# EAGLE library part 2524-5002UB (library 3M_By_element14_Batch_1)
WIRE-BOARD CONN, HEADER, 24POS
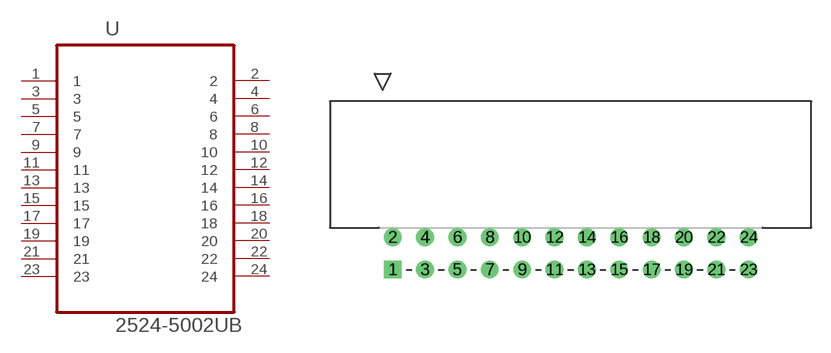
[diagram p23: symbol with the pads of 3M_2524-5002UB; footprint 3M_2524-5002UB]

Designator prefix U

## 2524-5002UB (MPN: 2524-5002UB; OC_FARNELL: 1941010; OC_NEWARK: 93F3744; PACKAGE: WIRE-BOARD CONN, HEADER, 24POS; SUPPLIER: 3M)  [3M_2524-5002UB]
1  1  pas
2  2  pas
3  3  pas
4  4  pas
5  5  pas
6  6  pas
7  7  pas
8  8  pas
9  9  pas
10  10  pas
11  11  pas
12  12  pas
13  13  pas
14  14  pas
15  15  pas
16  16  pas
17  17  pas
18  18  pas
19  19  pas
20  20  pas
21  21  pas
22  22  pas
23  23  pas
24  24  pas

## Footprint 3M_2524-5002UB (pad centres in mm)
drill 0.889 square: 1 0,-1.956
drill 0.889: 2 0,0.584; 3 2.54,-1.956; 4 2.54,0.584; 5 5.08,-1.956; 6 5.08,0.584; 7 7.62,-1.956; 8 7.62,0.584; 9 10.16,-1.956; 10 10.16,0.584; 11 12.7,-1.956; 12 12.7,0.584; 13 15.24,-1.956; 14 15.24,0.584; 15 17.78,-1.956; 16 17.78,0.584; 17 20.32,-1.956; 18 20.32,0.584; 19 22.86,-1.956; 20 22.86,0.584; 21 25.4,-1.956; 22 25.4,0.584; 23 27.94,-1.956; 24 27.94,0.584